# Altium footprint library 2013-10-10_12-50-01.PcbLib: 3 footprints
Each footprint in its own frame and in the unit in brackets; x right, y up, seen from the top. Pads: shape width x height; smd on the part's side, far side on the other; paste and mask are expansions set on the pad; w line width, h text height; cw(c..) or ccw(c..) is an arc to the next point about the centre after c.
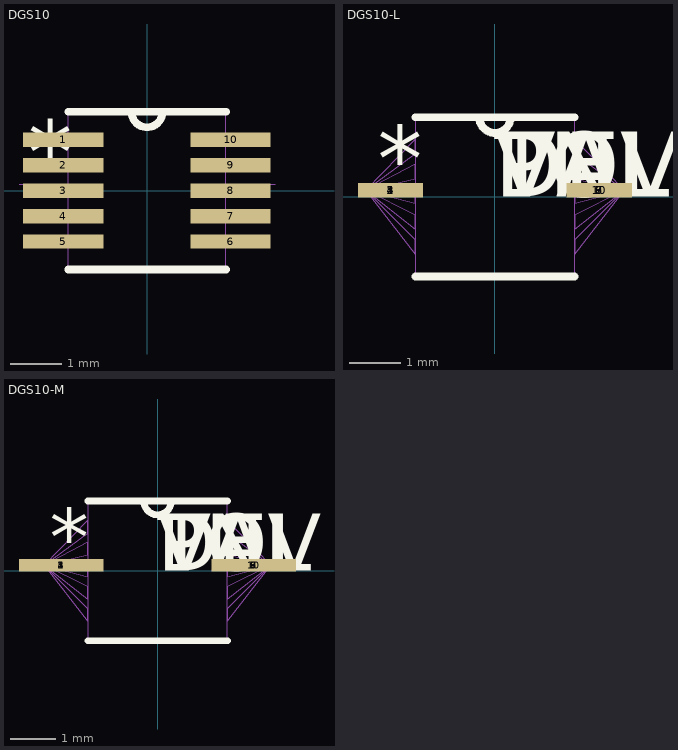
[diagram p0: the footprints below, top view; thin cyan lines are the x and y axes]

## DGS10 [mil]
pads (10):
  rect 62x11 smd: 1(-64.76,39.37) 2(-64.76,19.68) 3(-64.76,0) 4(-64.76,-19.68) 5(-64.76,-39.37) 6(64.57,-39.37) 7(64.57,-19.68) 8(64.57,0) 9(64.57,19.68) 10(64.57,39.37)
Top Overlay:
  region: 123,5 133,5
  lines w6: -61,-61 61,-61 ; -61,61 61,61 ; -12,61 ccw(c0,61) 12,61
  text "*" at -92,5 h50
Mechanical 1:
  lines w0: -99,5 -61,5 -61,-5 ; -61,-44 -61,-33 ; -61,-25 -61,-14 ; -61,14 -61,25 ; -61,33 -61,44 ; -12,61 ccw(c0,61) 12,61 ; 61,-44 61,-33 ; 61,-25 61,-14 ; 61,-5 61,5 99,5 ; 61,14 61,25 ; 61,33 61,44 ; -61,-61 61,-61 61,61 -61,61 -61,-61
  text "*" at -92,5 h50
3D body: height 59.06, standoff 11.81, extent -61,-61 61,61

## DGS10-L [mil]
pads (10):
  rect 50x11 smd: 1(-80,5) 2(-80,5) 3(-80,5) 4(-80,5) 5(-80,5) 6(80,5) 7(80,5) 8(80,5) 9(80,5) 10(80,5)
Top Overlay:
  region: 115,5 125,5
  lines w6: -61,-61 61,-61 ; -61,61 61,61 ; -12,61 ccw(c0,61) 12,61
  text "*" at -90,5 h50
  text "PN" at 0,0 h50
  text "DEV" at 0,0 h50
  text "VAL" at 0,0 h50
  text "TOL" at 0,0 h50
Mechanical 1:
  lines w0: -12,61 ccw(c0,61) 12,61 ; -99,5 -61,44 -61,33 -99,5 ; -99,5 -99,5 ; -99,5 -61,25 -61,14 -99,5 ; -99,5 -99,5 ; -99,5 -61,5 -61,-5 -99,5 ; -99,5 -99,5 ; -99,5 -61,-14 -61,-25 -99,5 ; -99,5 -99,5 ; -99,5 -61,-33 -61,-44 -99,5 ; -99,5 -99,5 ; 99,5 61,-44 61,-33 99,5 ; 99,5 99,5 ; 99,5 61,-25 61,-14 99,5 ; 99,5 99,5 ; 99,5 61,-5 61,5 99,5 ; 99,5 99,5 ; 99,5 61,14 61,25 99,5 ; 99,5 99,5 ; 99,5 61,33 61,44 99,5 ; 99,5 99,5 ; -61,-61 61,-61 61,61 -61,61 -61,-61
  text "*" at -90,5 h50
  text "RefDes2" at 0,0 h50

## DGS10-M [mil]
pads (10):
  rect 74x11 smd: 1(-84,5) 2(-84,5) 3(-84,5) 4(-84,5) 5(-84,5) 6(84,5) 7(84,5) 8(84,5) 9(84,5) 10(84,5)
Top Overlay:
  region: 131,5 141,5
  lines w6: -61,-61 61,-61 ; -61,61 61,61 ; -12,61 ccw(c0,61) 12,61
  text "*" at -94,5 h50
  text "PN" at 0,0 h50
  text "DEV" at 0,0 h50
  text "VAL" at 0,0 h50
  text "TOL" at 0,0 h50
Mechanical 1:
  lines w0: -12,61 ccw(c0,61) 12,61 ; -99,5 -61,44 -61,33 -99,5 ; -99,5 -99,5 ; -99,5 -61,25 -61,14 -99,5 ; -99,5 -99,5 ; -99,5 -61,5 -61,-5 -99,5 ; -99,5 -99,5 ; -99,5 -61,-14 -61,-25 -99,5 ; -99,5 -99,5 ; -99,5 -61,-33 -61,-44 -99,5 ; -99,5 -99,5 ; 99,5 61,-44 61,-33 99,5 ; 99,5 99,5 ; 99,5 61,-25 61,-14 99,5 ; 99,5 99,5 ; 99,5 61,-5 61,5 99,5 ; 99,5 99,5 ; 99,5 61,14 61,25 99,5 ; 99,5 99,5 ; 99,5 61,33 61,44 99,5 ; 99,5 99,5 ; -61,-61 61,-61 61,61 -61,61 -61,-61
  text "*" at -94,5 h50
  text "RefDes2" at 0,0 h50